# EAGLE library part 64901221122 (library Wire-to-Board (rev18a))
WR-MPC4 4.20mm Male Dual Row Vertical Header, 12 Pins=>Code : Con_WTB_MPC4_2_PCB_64901221122 <http://katalog.we-online.de/media/thumbs2/eican/thb_Con_WTB_MPC4_2_PCB_6490xx21122_pf2.jpg> Details see: http://katalog.we-online.de/en/em/MPC4_4_20_MALE_DUAL_ROW_VERTICAL_HEADER_6490XX21122 Created 2014-06-06, Karrer Zheng 2014 (C) Würth Elektronik
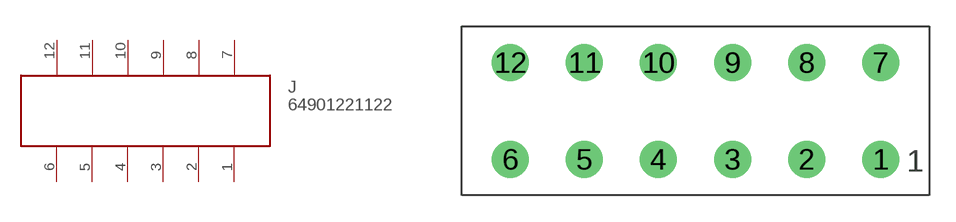
[diagram p291: symbol with the pads of 64901221122; footprint 64901221122]

Designator prefix J

## 64901221122  [64901221122]
1  1
2  2
3  3
4  4
5  5
6  6
7  7
8  8
9  9
10  10
11  11
12  12

## Footprint 64901221122 (pad centres in mm)
WR-MPC4 4.20mm Male Dual Row Vertical Header, 12 Pins
drill 1.4: 1 10.5,-2.75; 2 6.3,-2.75; 3 2.1,-2.75; 4 -2.1,-2.75; 5 -6.3,-2.75; 6 -10.5,-2.75; 7 10.5,2.75; 8 6.3,2.75; 9 2.1,2.75; 10 -2.1,2.75; 11 -6.3,2.75; 12 -10.5,2.75